# Altium integrated library mech-connector.IntLib: 30 symbols
Pins are listed as number, name and electrical type; pins without a type are passive.

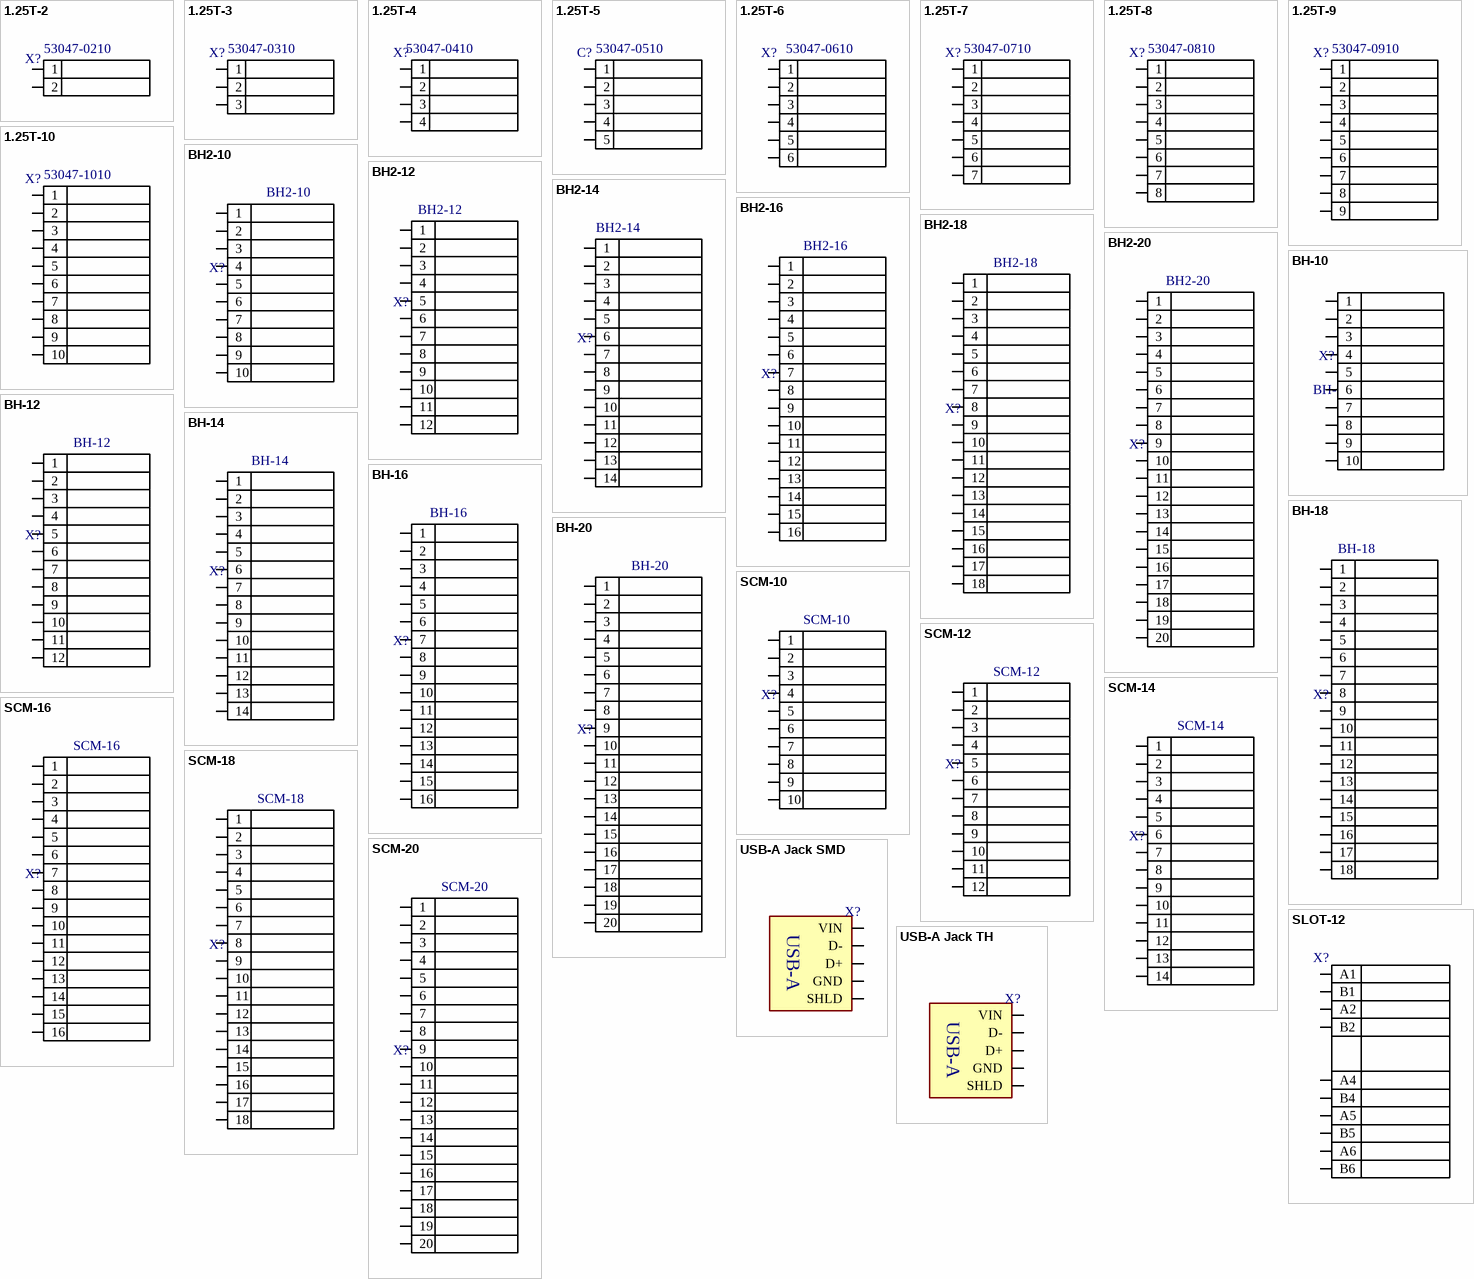
[diagram p0: symbols 1.25T-2 to USB-A Jack TH]

## 1.25T-2
designator X?, comment 53047-0210
Connector 1.25T; Manufacturer: Molex; Power/Voltage: 80W; Value: 1.25 mm; ManufacturerPartNumber: 53047-0210; Type: mech-jack; RevisionDate: 20-11-2018; Package: 53047; Name: 53047-0210
footprint CON-1.25T-2
pins: 1, 2

## 1.25T-3
designator X?, comment 53047-0310
Connector 1.25T; Manufacturer: Molex; Power/Voltage: 100V; Value: 1.25 mm; ManufacturerPartNumber: 53047-0310; Type: mech-connector; RevisionDate: 20-11-2018; Package: 53047; Name: 53047-0310
footprint CON-1.25T-3
pins: 1, 2, 3

## 1.25T-4
designator X?, comment 53047-0410
Connector 1.25T; Manufacturer: Molex; Power/Voltage: 100V; Value: 1.25 mm; ManufacturerPartNumber: 53047-0410; Type: mech-connector; RevisionDate: 20-11-2018; Package: 53047; Name: 53047-0410
footprint CON-1.25T-4
pins: 1, 2, 3, 4

## 1.25T-5
designator C?, comment 53047-0510
Connector 1.25T; Manufacturer: Molex; Type: mech-connector; Power/Voltage: 100V; Value: 1.25 mm; ManufacturerPartNumber: 53047-0510; RevisionDate: 20-11-2018; Package: 53047; Name: 53047-0510
footprint CON-1.25T-5
pins: 1, 2, 3, 4, 5

## 1.25T-6
designator X?, comment 53047-0610
Connector 1.25T; Manufacturer: Molex; Power/Voltage: 100V; Value: 1.25 mm; ManufacturerPartNumber: 53047-0610; Type: mech-connector; RevisionDate: 20-11-2018; Package: 53047; Name: 53047-0610
footprint CON-1.25T-6
pins: 1, 2, 3, 4, 5, 6

## 1.25T-7
designator X?, comment 53047-0710
Connector 1.25T; Manufacturer: Molex; Power/Voltage: 100V; Value: 1.25 mm; ManufacturerPartNumber: 53047-0710; Type: mech-connector; RevisionDate: 20-11-2018; Package: 53047; Name: 53047-0710
footprint CON-1.25T-7
pins: 1, 2, 3, 4, 5, 6, 7

## 1.25T-8
designator X?, comment 53047-0810
Connector 1.25T; Manufacturer: Molex; Power/Voltage: 100V; Value: 1.25 mm; ManufacturerPartNumber: 53047-0810; Type: mech-connector; RevisionDate: 20-11-2018; Package: 53047; Name: 53047-0810
footprint CON-1.25T-8
pins: 1, 2, 3, 4, 5, 6, 7, 8

## 1.25T-9
designator X?, comment 53047-0910
Connector 1.25T; Manufacturer: Molex; Power/Voltage: 100V; Value: 1.25 mm; ManufacturerPartNumber: 53047-0910; Type: mech-connector; RevisionDate: 20-11-2018; Package: 53047; Name: 53047-0910
footprint CON-1.25T-9
pins: 1, 2, 3, 4, 5, 6, 7, 8, 9

## 1.25T-10
designator X?, comment 53047-1010
Connector 1.25T; Manufacturer: Molex; Power/Voltage: 100V; Value: 1.25 mm; ManufacturerPartNumber: 53047-1010; Type: mech-connector; RevisionDate: 20-11-2018; Package: 53047; Name: 53047-1010
footprint CON-1.25T-10
pins: 1, 2, 3, 4, 5, 6, 7, 8, 9, 10

## BH2-10
designator X?
BH2-10/IDC2-10MS; Manufacturer: Connfly; Power/Voltage: 50V; Value: 2.0 mm; ManufacturerPartNumber: IDC2-10MS; Type: mech-connector; RevisionDate: 20-11-2018; Package: BH2; Name: BH2-10
footprint BH2-10 (IDC2-XXMS Connector)
pins: 1, 2, 3, 4, 5, 6, 7, 8, 9, 10

## BH2-12
designator X?
BH2-12/IDC2-12MS; Manufacturer: Connfly; Power/Voltage: 50V; Value: 2.0 mm; ManufacturerPartNumber: IDC2-12MS; Type: mech-connector; Tolerance: *; RevisionDate: 20-11-2018; Package: BH2; Name: BH2-12
footprint BH2-12 (IDC2-XXMS Connector)
pins: 1, 2, 3, 4, 5, 6, 7, 8, 9, 10, 11, 12

## BH2-14
designator X?
BH2-14/IDC2-14MS; Manufacturer: Connfly; Power/Voltage: 50V; Value: 2.0 mm; ManufacturerPartNumber: IDC2-14MS; Type: mech-connector; Tolerance: *; RevisionDate: 20-11-2018; Package: BH2; Name: BH2-14
footprint BH2-14 (IDC2-XXMS Connector)
pins: 1, 2, 3, 4, 5, 6, 7, 8, 9, 10, 11, 12, 13, 14

## BH2-16
designator X?
BH2-16/IDC2-16MS; Manufacturer: Connfly; Power/Voltage: 50V; Value: 2.0 mm; ManufacturerPartNumber: IDC2-16MS; Type: mech-connector; Tolerance: *; RevisionDate: 20-11-2018; Package: BH2; Name: BH2-16
footprint BH2-16 (IDC2-XXMS Connector)
pins: 1, 2, 3, 4, 5, 6, 7, 8, 9, 10, 11, 12, 13, 14, 15, 16

## BH2-18
designator X?
BH-18/IDC2-18MS; Manufacturer: Connfly; Power/Voltage: 50V; Value: 2.0 mm; ManufacturerPartNumber: IDC2-18MS; Type: mech-connector; Tolerance: *; RevisionDate: 20-11-2018; Package: BH2; Name: BH2-18
footprint BH2-18 (IDC2-XXMS Connector)
pins: 1, 2, 3, 4, 5, 6, 7, 8, 9, 10, 11, 12, 13, 14, 15, 16, 17, 18

## BH2-20
designator X?
BH2-20/IDC2-20MS; Manufacturer: Connfly; Power/Voltage: 50V; Value: 2.0 mm; ManufacturerPartNumber: IDC2-20MS; Type: mech-connector; Tolerance: *; RevisionDate: 20-11-2018; Package: BH2; Name: BH2-20
footprint BH2-20 (IDC2-XXMS Connector)
pins: 1, 2, 3, 4, 5, 6, 7, 8, 9, 10, 11, 12, 13, 14, 15, 16, 17, 18, 19, 20

## BH-10
designator X?
BH-10/IDC-10MS; Manufacturer: Connfly; Power/Voltage: 50V; Value: 2.54 mm; ManufacturerPartNumber: IDC-10MS; Type: mech-connector; Tolerance: *; RevisionDate: 20-11-2018; Package: BH; Name: BH-10
footprint BH-10
pins: 1, 2, 3, 4, 5, 6, 7, 8, 9, 10

## BH-12
designator X?
BH-12/IDC-12MS; Manufacturer: Connfly; Power/Voltage: 50V; Value: 2.54 mm; ManufacturerPartNumber: IDC-12MS; Type: mech-connector; Tolerance: *; RevisionDate: 20-11-2018; Package: BH; Name: BH-12
footprint BH-12
pins: 1, 2, 3, 4, 5, 6, 7, 8, 9, 10, 11, 12

## BH-14
designator X?
BH-14/IDC-14MS; Manufacturer: Connfly; Power/Voltage: 50V; Value: 2.54 mm; ManufacturerPartNumber: IDC-14MS; Type: mech-connector; Tolerance: *; RevisionDate: 20-11-2018; Package: BH; Name: BH-14
footprint BH-14
pins: 1, 2, 3, 4, 5, 6, 7, 8, 9, 10, 11, 12, 13, 14

## BH-16
designator X?
BH-16/IDC-16MS; Manufacturer: Connfly; Power/Voltage: 50V; Value: 2.54 mm; ManufacturerPartNumber: IDC-16MS; Type: mech-connector; Tolerance: *; RevisionDate: 20-11-2018; Package: BH; Name: BH-16
footprint BH-16
pins: 1, 2, 3, 4, 5, 6, 7, 8, 9, 10, 11, 12, 13, 14, 15, 16

## BH-18
designator X?
BH-18/IDC-18MS; Manufacturer: Connfly; Power/Voltage: 50V; Value: 2.54 mm; ManufacturerPartNumber: IDC-18MS; Type: mech-connector; Tolerance: *; RevisionDate: 20-11-2018; Package: BH; Name: BH-18
footprint BH-18
pins: 1, 2, 3, 4, 5, 6, 7, 8, 9, 10, 11, 12, 13, 14, 15, 16, 17, 18

## BH-20
designator X?
BH-20/IDC-20MS; Manufacturer: Connfly; Power/Voltage: 50V; Value: 2.54 mm; ManufacturerPartNumber: IDC-20MS; Type: mech-connector; Tolerance: *; RevisionDate: 20-11-2018; Package: BH; Name: BH-20
footprint BH-20
pins: 1, 2, 3, 4, 5, 6, 7, 8, 9, 10, 11, 12, 13, 14, 15, 16, 17, 18, 19, 20

## SCM-10
designator X?
Connector SCM; Manufacturer: Connfly; ManufacturerPartNumber: IDCC-10MS; Power/Voltage: 50V; Value: 2.54 mm; Type: mech-connector; Tolerance: *; RevisionDate: 20-11-2018; Package: SCM; Name: SCM-10
footprint SCM-10
pins: 1, 2, 3, 4, 5, 6, 7, 8, 9, 10

## SCM-12
designator X?
Connector SCM; Manufacturer: Connfly; ManufacturerPartNumber: IDCC-12MS; Power/Voltage: 50V; Value: 2.54 mm; Type: mech-connector; Tolerance: *; RevisionDate: 20-11-2018; Package: SCM; Name: SCM-12
footprint SCM-12
pins: 1, 2, 3, 4, 5, 6, 7, 8, 9, 10, 11, 12

## SCM-14
designator X?
Connector SCM; Manufacturer: Connfly; ManufacturerPartNumber: IDCC-14MS; Power/Voltage: 50V; Value: 2.54 mm; Type: mech-connector; Tolerance: *; RevisionDate: 20-11-2018; Package: SCM; Name: SCM-14
footprint SCM-14
pins: 1, 2, 3, 4, 5, 6, 7, 8, 9, 10, 11, 12, 13, 14

## SCM-16
designator X?
Connector SCM; Manufacturer: Connfly; ManufacturerPartNumber: IDCC-16MS; Power/Voltage: 50V; Value: 2.54 mm; Type: mech-connector; Tolerance: *; RevisionDate: 20-11-2018; Package: SCM; Name: SCM-16
footprint SCM-16
pins: 1, 2, 3, 4, 5, 6, 7, 8, 9, 10, 11, 12, 13, 14, 15, 16

## SCM-18
designator X?
Connector SCM; Manufacturer: Connfly; ManufacturerPartNumber: IDCC-18MS; Power/Voltage: 50V; Value: 2.54 mm; Type: mech-connector; Tolerance: *; RevisionDate: 20-11-2018; Package: SCM; Name: SCM-18
footprint SCM-18
pins: 1, 2, 3, 4, 5, 6, 7, 8, 9, 10, 11, 12, 13, 14, 15, 16, 17, 18

## SCM-20
designator X?
Connector SCM; Manufacturer: Connfly; ManufacturerPartNumber: IDCC-20MS; Power/Voltage: 50V; Value: 2.54 mm; Type: mech-connector; Tolerance: *; RevisionDate: 20-11-2018; Package: SCM; Name: SCM-20
footprint SCM-20
pins: 1, 2, 3, 4, 5, 6, 7, 8, 9, 10, 11, 12, 13, 14, 15, 16, 17, 18, 19, 20

## SLOT-12
designator X?, comment SLOT-12-3P  (value not drawn)
Edge slot connector; Manufacturer: KLS Electronic; Power/Voltage: 100V; Value: 2.54 mm; Name: SLOT-12-3P; ManufacturerPartNumber: *; Type: mech-connector; Tolerance: *; RevisionDate: 20-11-2018; Package: SLOT
footprint SLOT-12-3P
pins: A1, A2, A4, A5, A6, B1, B2, B4, B5, B6

## USB-A Jack SMD
designator X?, comment USB-ASM  (value not drawn)
Jack USB2-A smd; Manufacturer: Connfly; ManufacturerPartNumber: DS1098-BN0; Power/Voltage: 50V; Value: 2.0 mm; Name: USB-ASM; Type: mech-connector; Tolerance: *; RevisionDate: 20-11-2018; Package: USB-A
footprint USB-A-4-RECEPT
pins: 1 VIN, 2 D-, 3 D+, 4 GND, 5 SHLD

## USB-A Jack TH
designator X?, comment USB-AR  (value not drawn)
Jack USB2-A th; Manufacturer: Connfly; ManufacturerPartNumber: DS1097-BN0; Power/Voltage: 50V; Value: 2.0 mm; Name: USB-AR; Type: mech-connector; Tolerance: *; RevisionDate: 20-11-2018; Package: USB-A
footprint USB-A-4-RECEPT2
pins: 1 VIN, 2 D-, 3 D+, 4 GND, 5 SHLD